# EAGLE library part BC857BV (library Railstars)
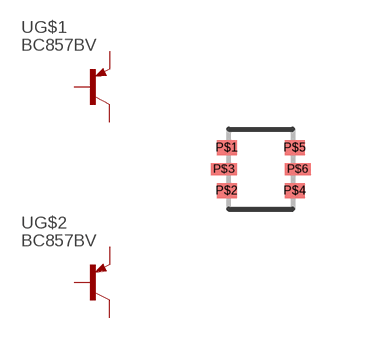
[diagram p43: symbol with the pads of SOT-666; footprint SOT-666]

Designator prefix -; gates G$1=PNP G$2=PNP

## BC857BV  [SOT-666]
P$1  G$1:E  pas
P$2  G$1:B  pas
P$3  G$2:C  pas
P$4  G$2:E  pas
P$5  G$2:B  pas
P$6  G$1:C  pas

## Footprint SOT-666 (pad centres in mm)
smd 0.5 x 0.375: P$1 -0.85,0.537; P$2 -0.85,-0.537; P$4 0.85,-0.537; P$5 0.85,0.537
smd 0.65 x 0.3: P$3 -0.925,0; P$6 0.925,0